# EAGLE library part SAM2695 (library ic-dream)
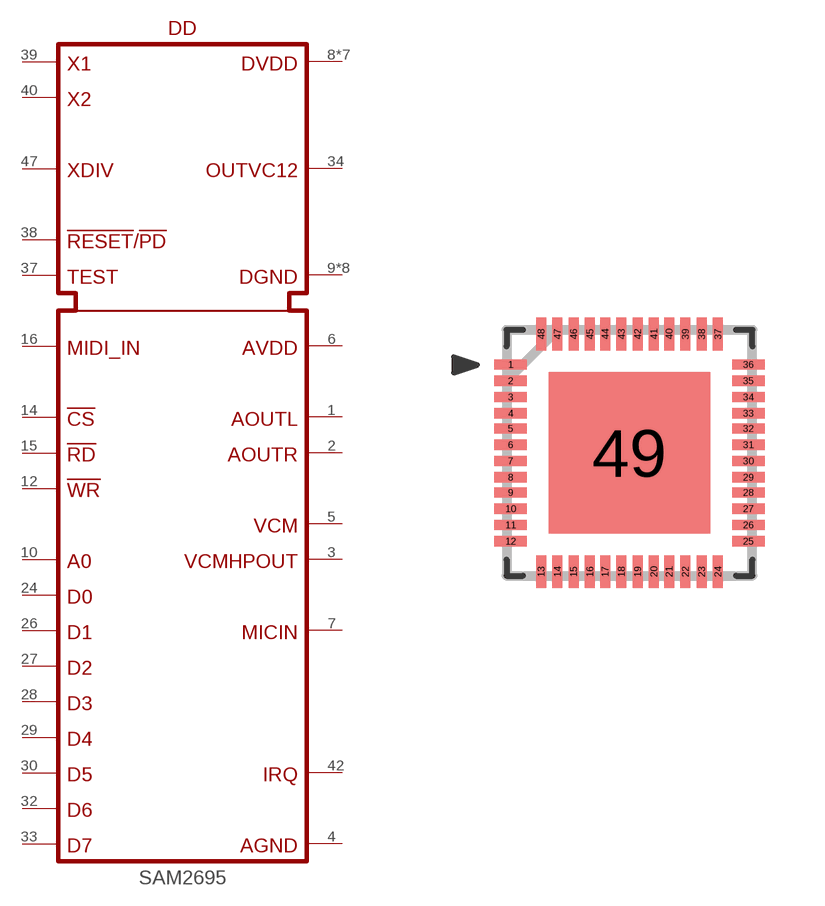
[diagram p0: symbol with the pads of MQFN48; footprint MQFN48]

Designator prefix DD

## SAM2695  [MQFN48]
1  AOUTL  in
2  AOUTR  in
3  VCMHPOUT  in
4  AGND  in
5  VCM  in
6  AVDD  in
7  MICIN  in
8  DVDD  in
9  DGND  in
10  A0  in
11  DVDD  in
12  !WR  in
13  DGND  in
14  !CS  in
15  !RD  in
16  MIDI_IN  in
18  DGND  in
20  DVDD  in
24  D0  in
25  DGND  in
26  D1  in
27  D2  in
28  D3  in
29  D4  in
30  D5  in
31  DVDD  in
32  D6  in
33  D7  in
34  OUTVC12  in
35  DVDD  in
36  DGND  in
37  TEST  in
38  !RESET/!PD  in
39  X1  in
40  X2  in
41  DVDD  in
42  IRQ  in
45  DGND  in
46  DVDD  in
47  XDIV  in
48  DGND  in
49  DGND  in

## Footprint MQFN48 (pad centres in mm)
smd 0.813 x 0.254: 1 -2.972,2.21; 2 -2.972,1.803; 3 -2.972,1.397; 4 -2.972,0.991; 5 -2.972,0.61; 6 -2.972,0.203; 7 -2.972,-0.203; 8 -2.972,-0.61; 9 -2.972,-0.991; 10 -2.972,-1.397; 11 -2.972,-1.803; 12 -2.972,-2.21; 25 2.972,-2.21; 26 2.972,-1.803; 27 2.972,-1.397; 28 2.972,-0.991; 29 2.972,-0.61; 30 2.972,-0.203; 31 2.972,0.203; 32 2.972,0.61; 33 2.972,0.991; 34 2.972,1.397; 35 2.972,1.803; 36 2.972,2.21
smd 0.254 x 0.813: 13 -2.21,-2.972; 14 -1.803,-2.972; 15 -1.397,-2.972; 16 -0.991,-2.972; 17 -0.61,-2.972; 18 -0.203,-2.972; 19 0.203,-2.972; 20 0.61,-2.972; 21 0.991,-2.972; 22 1.397,-2.972; 23 1.803,-2.972; 24 2.21,-2.972; 37 2.21,2.972; 38 1.803,2.972; 39 1.397,2.972; 40 0.991,2.972; 41 0.61,2.972; 42 0.203,2.972; 43 -0.203,2.972; 44 -0.61,2.972; 45 -0.991,2.972; 46 -1.397,2.972; 47 -1.803,2.972; 48 -2.21,2.972
smd 4.039 x 4.039: 49 0,0